# Altium schematic symbol library SCH - CONNECTORS - TE-CONBNC01.SCHLIB: 1 symbol
Pins are listed as number, name and electrical type; pins without a type are passive.

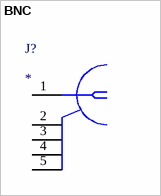
[diagram p0: symbol BNC]

## BNC
designator J?
Connector; Manufacturer_Name: Linx Technologies; Manufacturer_Part_Number: CONBNC001; Description: RF Connectors / Coaxial Connectors BNC Connector Jack; Datasheet Link: https://linxtechnologies.com/wp/wp-content/uploads/conbnc001-ds.pdf; Height: 13.9mm; Mouser Part Number: 712-CONBNC001; Mouser Price/Stock: https://www.mouser.co.uk/ProductDetail/Linx-Technologies/CONBNC001?qs=doiCPypUmgHczHAGaJs8Lg%3D%3D
pins: 1, 2, 3, 4, 5